# Altium schematic symbol library TPS56C230RJER.SchLib: 1 symbol
Pins are listed as number, name and electrical type; pins without a type are passive.

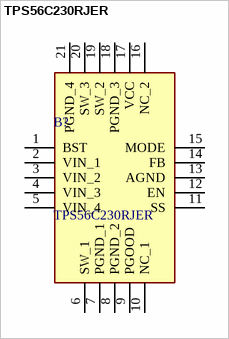
[diagram p0: symbol TPS56C230RJER]

## TPS56C230RJER
designator B?
Switching Voltage Regulators 4.5-V to 18-V, 12-A synchronous buck converter 20-VQFN-HR -40 to 125; Manufacturer_Name: Texas Instruments; Geometry.Height: 1mm; Manufacturer_Part_Number: TPS56C230RJER; Mouser Part Number: 595-TPS56C230RJER; Mouser Price/Stock: https://www.mouser.co.uk/ProductDetail/Texas-Instruments/TPS56C230RJER?qs=B6kkDfuK7%2FDZws9l9ZFrjw%3D%3D; Arrow Part Number: TPS56C230RJER; Arrow Price/Stock: https://www.arrow.com/en/products/tps56c230rjer/texas-instruments?utm_currency=USD&region=nac; Datasheet Link: https://www.ti.com/lit/gpn/TPS56C230
footprint QFN45P300X300X100-21N-D
pins: 1 BST, 2 VIN_1, 3 VIN_2, 4 VIN_3, 5 VIN_4, 6 SW_1, 7 PGND_1, 8 PGND_2, 9 PGOOD, 10 NC_1, 11 SS, 12 EN, 13 AGND, 14 FB, 15 MODE, 16 NC_2, 17 VCC, 18 PGND_3, 19 SW_2, 20 SW_3, 21 PGND_4